# Altium footprint library Lib1.PcbLib: 70 footprints (part 4 of 5)
Each footprint in its own frame and in the unit in brackets; x right, y up, seen from the top. Pads: shape width x height; smd on the part's side, far side on the other; paste and mask are expansions set on the pad; w line width, h text height; cw(c..) or ccw(c..) is an arc to the next point about the centre after c.
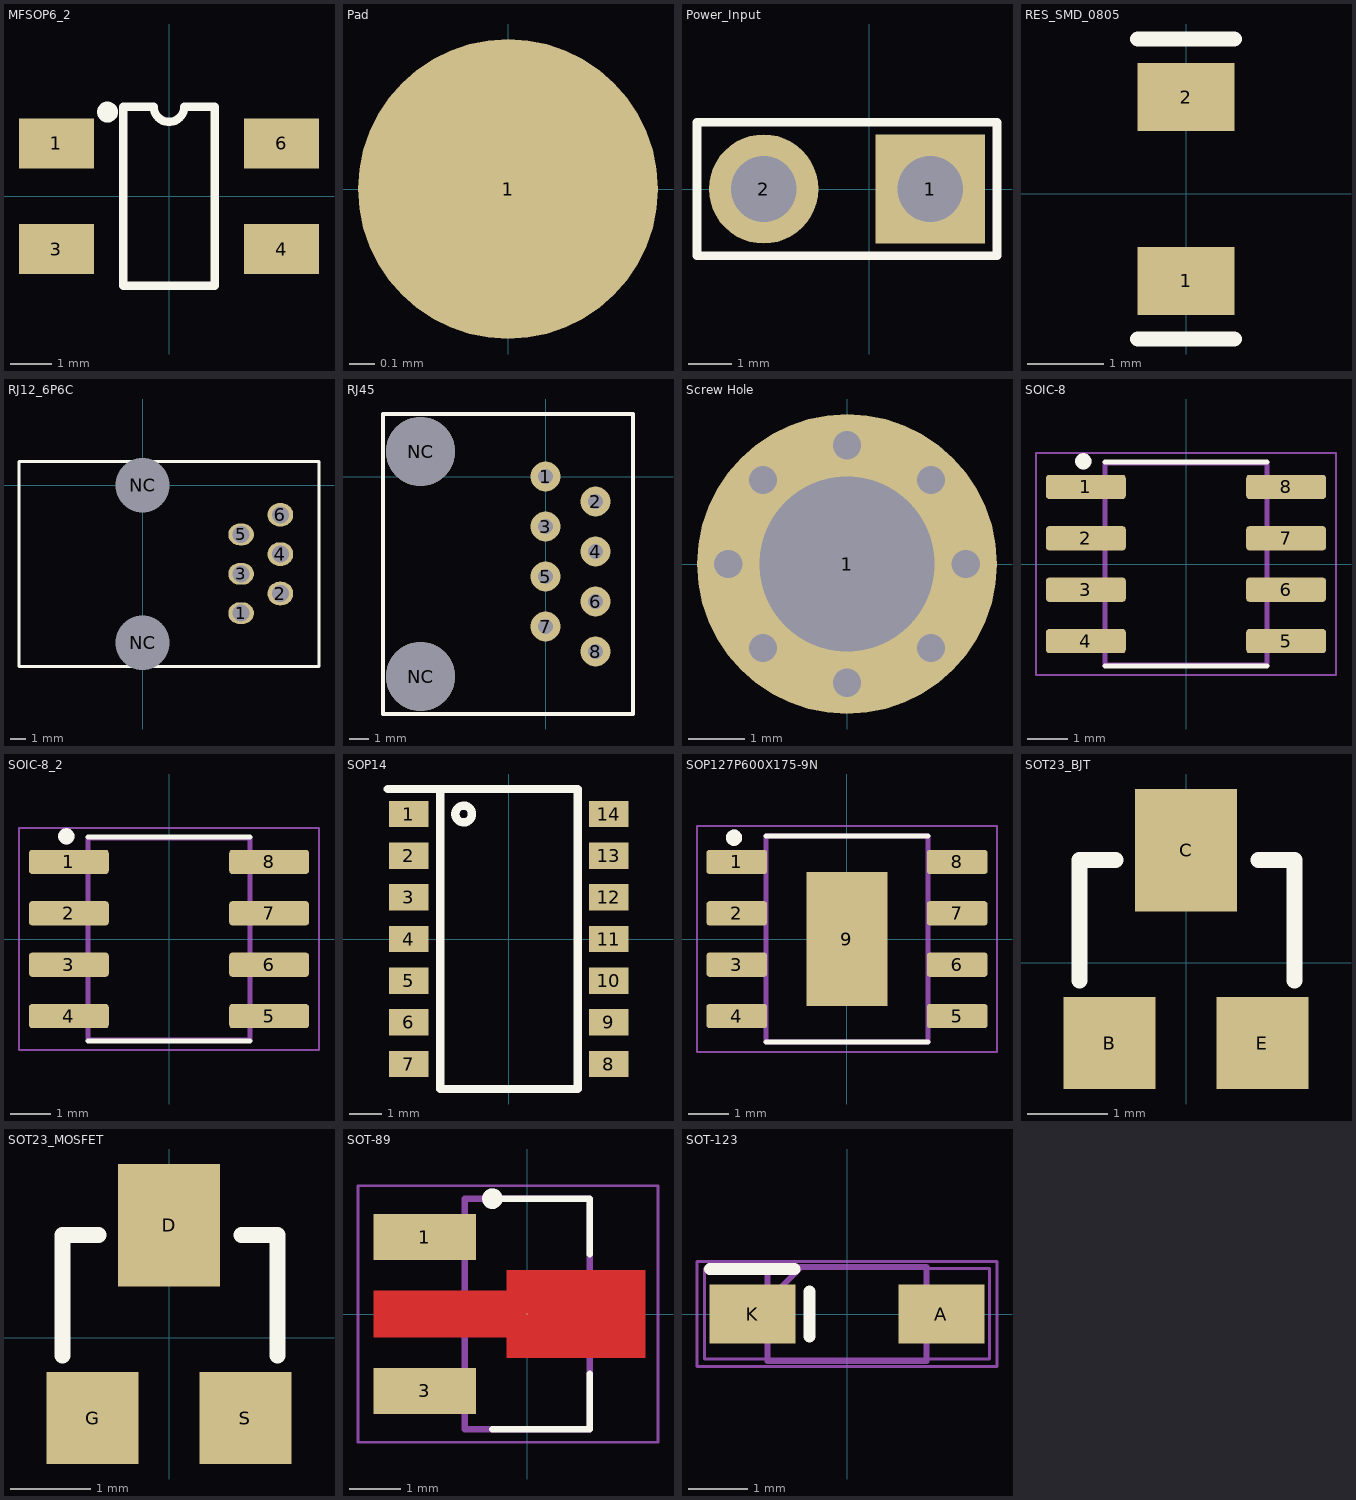
[diagram p3: the footprints below, top view; thin cyan lines are the x and y axes]

## MFSOP6_2 [mm]
pads (4):
  rect 1.8x1.2 smd: 1(-2.7,1.27) 3(-2.7,-1.27) 4(2.7,-1.27) 6(2.7,1.27)
Top Overlay:
  circle w0.25: c-1.476,2.019 r0.125
  lines w0.2: -1.1,-2.15 -1.1,2.15 -0.367,2.15 ccw(c0,2.15) 0.367,2.15 1.1,2.15 1.1,-2.15 -1.1,-2.15
3D body "TLP127.STEP": height 2.8, standoff 0, extent -3.5,-1.8 3.5,1.8

## Pad [mm]
pads (1):
  round 1.2 smd: 1(0,0)

## Power_Input [mm]
pads (2):
  rect 2.5x2.5 hole 1.5: 1(1.397,0)
  round 2.5 hole 1.5: 2(-2.413,0)
Top Overlay:
  lines w0.2: -3.937,-1.524 2.921,-1.524 2.921,1.524 -3.937,1.524 -3.937,-1.524

## RES_SMD_0805 [mil]
pads (2):
  rect 50x35 smd: 1(0,-45) 2(0,50)
Top Overlay:
  lines w8: -25,-75 25,-75 ; -25,80 25,80
3D body "User Library-res0805-1.STEP": height -16, standoff -35.69, extent -24.6,-37.37 24.61,41.37

## RJ12_6P6C [mil]
pads (8):
  oval 65x55 hole 43.31: 1(250,-325) 3(250,-225) 5(250,-125)
  oval 65x60 hole 43.31: 2(350,-275) 4(350,-175) 6(350,-75)
  round 120 hole 137.79: NC(0,-400) NC(0,0)
Top Overlay:
  lines w8: -314,-460 448,-460 448,60 -314,60 -314,-460
3D body "User Library-RJ11 6W CONNECTOR.step": height 511.42, standoff -142.48, extent -312.33,-449 396.33,62.81

## RJ45 [mil]
pads (10):
  round 60 hole 30: 1(0,0) 2(100,-50) 3(0,-100) 4(100,-150) 5(0,-200) 6(100,-250) 7(0,-300) 8(100,-350)
  round 138 hole 138: NC(-250,-400) NC(-250,50)
Top Overlay:
  lines w8: -325,-475 175,-475 175,125 -325,125 -325,-475

## Screw Hole [mm]
pads (1):
  round 5.3 hole 3.1: 1(0,0)
via 1.485,1.485 diameter 0.7 hole 0.5
via 1.485,-1.485 diameter 0.7 hole 0.5
via -1.485,-1.485 diameter 0.7 hole 0.5
via -1.485,1.485 diameter 0.7 hole 0.5
via -2.1,0 diameter 0.7 hole 0.5
via 2.1,0 diameter 0.7 hole 0.5
via 0,-2.1 diameter 0.7 hole 0.5
via 0,2.1 diameter 0.7 hole 0.5

## Screw Hole_ Via [mm]
via 0,0 diameter 5.3 hole 3.1
via 1.485,1.485 diameter 0.7 hole 0.5
via 1.485,-1.485 diameter 0.7 hole 0.5
via -1.485,-1.485 diameter 0.7 hole 0.5
via -1.485,1.485 diameter 0.7 hole 0.5
via -2.1,0 diameter 0.7 hole 0.5
via 2.1,0 diameter 0.7 hole 0.5
via 0,-2.1 diameter 0.7 hole 0.5
via 0,2.1 diameter 0.7 hole 0.5

## SOIC-8 [mm]
pads (8):
  rrect25% 1.97x0.6 smd: 1(-2.475,1.905) 2(-2.475,0.635) 3(-2.475,-0.635) 4(-2.475,-1.905) 5(2.475,-1.905) 6(2.475,-0.635) 7(2.475,0.635) 8(2.475,1.905)
Top Overlay:
  circle w0.2: c-2.54,2.54 r0.1
  lines w0.127: -2,-2.525 2,-2.525 ; -2,2.525 2,2.525
Mechanical 13:
  circle w0.2: c-2.54,2.54 r0.1
  lines w0.127: -2,-2.5 -2,2.5 2,2.5 2,-2.5 -2,-2.5
Mechanical 15:
  lines w0.05: -3.71,-2.75 -3.71,2.75 3.71,2.75 3.71,-2.75 -3.71,-2.75
3D body "step_temp.STEP": height 1.75, standoff 0, extent -3,-2.45 3,2.45

## SOIC-8_2 [mm]
pads (8):
  rrect25% 1.97x0.6 smd: 1(-2.475,1.905) 2(-2.475,0.635) 3(-2.475,-0.635) 4(-2.475,-1.905) 5(2.475,-1.905) 6(2.475,-0.635) 7(2.475,0.635) 8(2.475,1.905)
Top Overlay:
  circle w0.2: c-2.54,2.54 r0.1
  lines w0.127: -2,-2.525 2,-2.525 ; -2,2.525 2,2.525
Mechanical 13:
  circle w0.2: c-2.54,2.54 r0.1
  lines w0.127: -2,-2.5 -2,2.5 2,2.5 2,-2.5 -2,-2.5
Mechanical 15:
  lines w0.05: -3.71,-2.75 -3.71,2.75 3.71,2.75 3.71,-2.75 -3.71,-2.75
3D body "AD8666ARZ.STEP": height 1.75, standoff 0, extent -3,-2.45 3,2.45

## SOP14 [mm]
pads (14):
  rect 1.2x0.8 smd: 1(-3.048,3.81) 2(-3.048,2.54) 3(-3.048,1.27) 4(-3.048,0) 5(-3.048,-1.27) 6(-3.048,-2.54) 7(-3.048,-3.81) 8(3.048,-3.81) 9(3.048,-2.54) 10(3.048,-1.27) 11(3.048,0) 12(3.048,1.27) 13(3.048,2.54) 14(3.048,3.81)
Top Overlay:
  circle w0.254: c-1.369,3.81 r0.254
  lines w0.254: -3.683,4.572 -2.083,4.572 ; -2.083,4.572 2.108,4.572 2.108,-4.572 -2.083,-4.572 -2.083,4.572
3D body "LM339--3DModel-STEP-501114.STEP": height 1.75, standoff 0, extent -3.076,-4.375 3.124,4.375

## SOP127P600X175-9N [mm]
pads (9):
  rrect25% 1.5x0.6 smd: 1(-2.725,1.905) 2(-2.725,0.635) 3(-2.725,-0.635) 4(-2.725,-1.905) 5(2.725,-1.905) 6(2.725,-0.635) 7(2.725,0.635) 8(2.725,1.905)
  rect 2x3.302 smd paste-3: 9(0,0)
Top Overlay:
  circle w0.2: c-2.794,2.505 r0.1
  lines w0.127: -2,-2.55 2,-2.55 ; -2,2.55 2,2.55
Mechanical 13:
  circle w0.2: c-2.794,2.505 r0.1
  lines w0.127: -2,-2.55 -2,2.55 2,2.55 2,-2.55 -2,-2.55
Mechanical 15:
  lines w0.05: -3.71,-2.8 -3.71,2.8 3.71,2.8 3.71,-2.8 -3.71,-2.8
3D body "step_temp.STEP": height 1.75, standoff 0, extent -3,-2.45 3,2.45

## SOT23_BJT [mm]
pads (3):
  rect 1.143x1.143 smd: B(-0.95,-1) E(0.95,-1)
  rect 1.27x1.524 smd: C(0,1.4)
Top Overlay:
  lines w0.2: -1.327,-0.224 -1.327,1.276 -0.877,1.276 ; 0.9,1.276 1.35,1.276 1.35,-0.224
3D body "AO3401A.STEP": height 1.25, standoff 0, extent -1.45,-1.4 1.45,1.4

## SOT23_MOSFET [mm]
pads (3):
  rect 1.27x1.524 smd: D(0,1.4)
  rect 1.143x1.143 smd: G(-0.95,-1) S(0.95,-1)
Top Overlay:
  lines w0.2: -1.327,-0.224 -1.327,1.276 -0.877,1.276 ; 0.9,1.276 1.35,1.276 1.35,-0.224
3D body "AO3401A.STEP": height 1.25, standoff 0, extent -1.45,-1.4 1.45,1.4

## SOT-89 [mm]
pads (3):
  rect 2x0.9 smd: 1(-2,1.5) 3(-2,-1.5)
  round 0.025 smd: 2(0,0)
Top Layer:
  region: -0.4,-0.85 -0.4,-0.45 -2.998,-0.45 -2.998,0.45 -0.4,0.45 -0.4,0.85 2.3,0.85 2.3,-0.85
Top Overlay:
  circle w0.2: c-0.68,2.25 r0.1
  lines w0.127: -0.68,-2.25 1.222,-2.25 1.222,-1.17 ; -0.68,2.25 1.222,2.25 1.222,1.17
Mechanical 13:
  circle w0.2: c-0.68,2.25 r0.1
  lines w0.127: -1.222,-2.25 -1.222,2.25 1.222,2.25 1.222,-2.25 -1.222,-2.25
Mechanical 15:
  lines w0.05: -3.302,-2.5 -3.302,2.5 2.55,2.5 2.55,-2.5 -3.302,-2.5
3D body "step_temp.STEP": height 1.6, standoff 0, extent -2.268,-2.25 1.827,2.25

## SOT-123 [mm]
pads (2):
  rect 1.45x1 smd: A(1.6,0) K(-1.6,0)
Top Overlay:
  lines w0.2: -2.325,0.76 -0.889,0.76 ; -0.635,-0.381 -0.635,0.381
Mechanical 13:
  lines w0.05: -2.413,-0.762 -2.413,0.769 2.413,0.769 2.413,-0.762 -2.413,-0.762
  lines w0.1: -1.345,0.225 -0.77,0.8 ; -1.345,-0.8 -1.345,0.8 1.345,0.8 1.345,-0.8 -1.345,-0.8
Mechanical 15:
  lines w0.05: -2.54,-0.889 -2.54,0.889 2.54,0.889 2.54,-0.889 -2.54,-0.889
3D body "step_temp.STEP": height 1.44, standoff -0.01, extent -1.825,-0.775 1.825,0.775